# Altium schematic symbol library SCH - POWER - SWITCHMODE - TI TPS54317_RHF_24.SchLib: 1 symbol
Pins are listed as number, name and electrical type; pins without a type are passive.

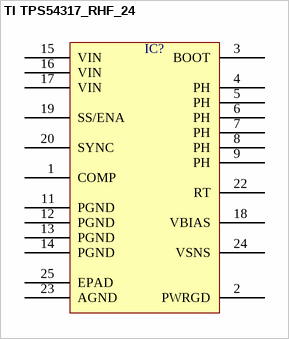
[diagram p0: symbol TI TPS54317_RHF_24]

## TI TPS54317_RHF_24
designator IC?  (value not drawn)
pins: 1 COMP, 2 PWRGD, 3 BOOT, 4 PH, 5 PH, 6 PH, 7 PH, 8 PH, 9 PH, 11 PGND, 12 PGND, 13 PGND, 14 PGND, 15 VIN, 16 VIN, 17 VIN, 18 VBIAS, 19 SS/ENA, 20 SYNC, 22 RT, 23 AGND, 24 VSNS, 25 EPAD